# Altium schematic symbol library Frost5000Beta_LIB_Integrados_Sch.SchLib: 15 symbols
Pins are listed as number, name and electrical type; pins without a type are passive.

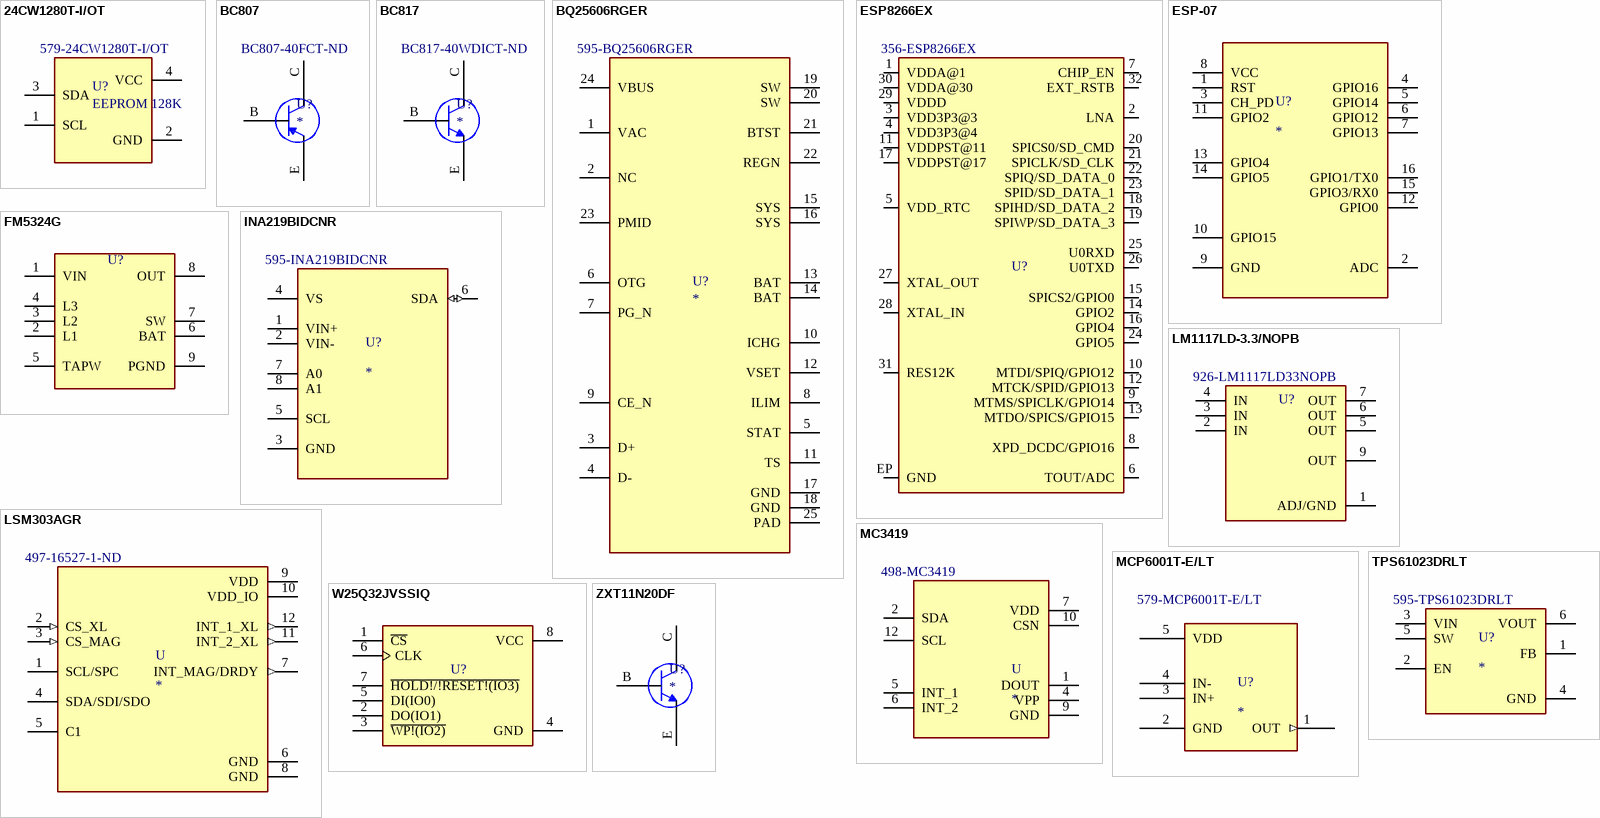
[diagram p0: symbols 24CW1280T-I/OT to ZXT11N20DF]

## 24CW1280T-I/OT
designator U?, comment EEPROM 128K  Supplier Part Number 1: 579-24CW1280T-I/OT
Supplier 1: Mouser
footprint 24CW128 (Footprint EEPROM SOT23)
pins: 1 SCL, 2 GND, 3 SDA, 4 VCC

## BC807
designator U?  Supplier Part Number 1: BC807-40FCT-ND
Transistor PNP; Supplier 1: Digi-Key
footprint Transistor_SOT23-3 (Transistor NPN)
pins: B, C, E

## BC817
designator U?  Supplier Part Number 1: BC817-40WDICT-ND
Transistor NPN; Supplier 1: Digi-Key
footprint Transistor_SOT23-3 (Transistor NPN)
pins: B, C, E

## BQ25606RGER
designator U?  Supplier Part Number 1: 595-BQ25606RGER
Battery Charger 3A - BQ25606; PartNumber: BQ25606RGER; Manufacturer: Texas Instruments; RefDes: RefDes; Type: DEV; Value: Value; Copyright: Copyright (C) 2018 Accelerated Designs. All rights reserved; Supplier 1: Mouser
footprint BQ25606 (Footprint BQ25606 Charger)
pins: 1 VAC, 2 NC, 3 D+, 4 D-, 5 STAT, 6 OTG, 7 PG_N, 8 ILIM, 9 CE_N, 10 ICHG, 11 TS, 12 VSET, 13 BAT, 14 BAT, 15 SYS, 16 SYS, 17 GND, 18 GND, 19 SW, 20 SW, 21 BTST, 22 REGN, 23 PMID, 24 VBUS, 25 PAD

## ESP8266EX
designator U?  Supplier Part Number 1: 356-ESP8266EX  (hidden comment: *)
Microcontrolador ESP8266; MF: Espressif Systems; Availability: Unavailable; SnapEDA_Link: https://www.snapeda.com/parts/ESP8266/Espressif%20Systems/view-part/106411/?ref=snap; Package: VFQFN-32 Espressif Systems; Value: *; MP: ESP8266; Price: None; Supplier 1: Mouser
footprint ESP8266_QFN32-5X5MM (Footprint del ESP8266EX)
pins: 1 VDDA@1, 2 LNA, 3 VDD3P3@3, 4 VDD3P3@4, 5 VDD_RTC, 6 TOUT/ADC, 7 CHIP_EN, 8 XPD_DCDC/GPIO16, 9 MTMS/SPICLK/GPIO14 (io), 10 MTDI/SPIQ/GPIO12, 11 VDDPST@11, 12 MTCK/SPID/GPIO13, 13 MTDO/SPICS/GPIO15, 14 GPIO2, 15 SPICS2/GPIO0, 16 GPIO4, 17 VDDPST@17, 18 SPIHD/SD_DATA_2, 19 SPIWP/SD_DATA_3, 20 SPICS0/SD_CMD, 21 SPICLK/SD_CLK, 22 SPIQ/SD_DATA_0, 23 SPID/SD_DATA_1, 24 GPIO5, 25 U0RXD, 26 U0TXD, 27 XTAL_OUT, 28 XTAL_IN, 29 VDDD, 30 VDDA@30, 31 RES12K, 32 EXT_RSTB, EP GND

## ESP-07
designator U?
ESP07 Module with Antenna Ai-Thinker; MP: AP65111AWU-7; MF: Diodes Inc.; Availability: Unavailable; SnapEDA_Link: https://www.snapeda.com/parts/AP65111AWU-7/Diodes%20Inc./view-part/1631258/?ref=snap; Price: None; Value: *; Package: TSOT-23-6 Diodes Inc.
footprint ESP-07 (ESP8266 Modulo)
pins: 1 RST, 2 ADC, 3 CH_PD, 4 GPIO16, 5 GPIO14, 6 GPIO12, 7 GPIO13, 8 VCC, 9 GND, 10 GPIO15, 11 GPIO2, 12 GPIO0, 13 GPIO4, 14 GPIO5, 15 GPIO3/RX0, 16 GPIO1/TX0

## FM5324G
designator U?  (value not drawn)
Power Battery Management IC; MP: LT1117IST-5#PBF; MF: Analog Devices; Value: *; Availability: Unavailable; Price: None; Package: SOT-223-3 Analog Devices; SnapEDA_Link: https://www.snapeda.com/parts/LT1117IST-5%23PBF/Analog%20Devices/view-part/4348177/?ref=snap
footprint SOP8
pins: 1 VIN, 2 L1, 3 L2, 4 L3, 5 TAPW, 6 BAT, 7 SW, 8 OUT, 9 PGND

## INA219BIDCNR
designator U?  Supplier Part Number 1: 595-INA219BIDCNR
Current Monitor Regulator High-Side 10mA SOT-23-8; MP: INA219BIDCNR; MF: Texas Instruments; SnapEDA_Link: https://www.snapeda.com/parts/INA219BIDCNR/Texas%20Instruments/view-part/870494/?ref=snap; Value: *; Digi-Key_Part_Number: 296-46420-1-ND; Digi-Key_Purchase_URL: https://www.digikey.com.au/product-detail/en/texas-instruments/INA219BIDCNR/296-46420-1-ND/7033594?utm_source=snapeda&utm_medium=aggregator&utm_campaign=symbol; Package: SOT-23 Texas Instruments; Supplier 1: Mouser
footprint INA219B SOT23 (Current Monitor)
pins: 1 VIN+, 2 VIN-, 3 GND, 4 VS (power), 5 SCL, 6 SDA (io), 7 A0, 8 A1

## LM1117LD-3.3/NOPB
designator U?  Supplier Part Number 1: 926-LM1117LD33NOPB  (hidden comment: *)
LDO Regulator Pos 3.3V 0.8A Texas; MP: LT1117IST-5#PBF; MF: Analog Devices; Value: *; Availability: Unavailable; Price: None; Package: SOT-223-3 Analog Devices; SnapEDA_Link: https://www.snapeda.com/parts/LT1117IST-5%23PBF/Analog%20Devices/view-part/4348177/?ref=snap; Supplier 1: Mouser
footprint LM1117-3.3-WSON-8 (Footprint del LDO de Texas)
pins: 1 ADJ/GND, 2 IN, 3 IN, 4 IN, 5 OUT, 6 OUT, 7 OUT, 9 OUT

## LSM303AGR
designator U  Supplier Part Number 1: 497-16527-1-ND
Accelerometer, Magnetometer; MP: LSM303AGR; MF: STMicroelectronics; Availability: Unavailable; Price: None; Value: *; SnapEDA_Link: https://www.snapeda.com/parts/LSM303AGR/STMicroelectronics/view-part/3601838/?ref=snap; Package: VFLGA-12 STMicroelectronics; Supplier 1: Digi-Key
footprint LSM303AGR-LGA12 (Footprint LSM303AGR)
pins: 1 SCL/SPC, 2 CS_XL (in), 3 CS_MAG (in), 4 SDA/SDI/SDO, 5 C1, 6 GND (power), 7 INT_MAG/DRDY (out), 8 GND (power), 9 VDD (power), 10 VDD_IO (power), 11 INT_2_XL (out), 12 INT_1_XL (out)

## MC3419
designator U  Supplier Part Number 1: 498-MC3419
Accelerometer; MP: LSM303AGR; MF: STMicroelectronics; Availability: Unavailable; Price: None; Value: *; SnapEDA_Link: https://www.snapeda.com/parts/LSM303AGR/STMicroelectronics/view-part/3601838/?ref=snap; Package: VFLGA-12 STMicroelectronics; Supplier 1: Mouser
footprint MC3419 (Footprint LSM303AGR)
pins: 1 DOUT, 2 SDA, 4 VPP, 5 INT_1, 6 INT_2, 7 VDD, 9 GND, 10 CSN, 12 SCL

## MCP6001T-E/LT
designator U?  Supplier Part Number 1: 579-MCP6001T-E/LT
OP AMP - 1.8V 1MHz  Single Supply; Supplier 1: Mouser
footprint MCP6001-SC70-5 (Footprint OPAMP)
pins: 1 OUT (out), 2 GND, 3 IN+, 4 IN-, 5 VDD (power)

## TPS61023DRLT
designator U?  Supplier Part Number 1: 595-TPS61023DRLT
Boost Switching Regulator IC Positive Adjustable 2.2V 1 Output 3A SOT-563, SOT-666; MF: Texas Instruments; MP: TPS61023DRLT; SnapEDA_Link: https://www.snapeda.com/parts/TPS61023DRLT/Texas%20Instruments/view-part/4477974/?ref=snap; Availability: Unavailable; Value: *; Price: None; Package: SOT-563 Texas Instruments; Supplier 1: Mouser
footprint TPS61023-SOT563 (Footprint Boost)
pins: 1 FB, 2 EN, 3 VIN, 4 GND, 5 SW, 6 VOUT

## W25Q32JVSSIQ
designator U?  (value not drawn)
FLASH - NOR Memory IC 32Mb _4M x 8_ SPI - Quad I/O 133MHz 8-SOIC; MF: Winbond; MP: W25Q32JVSSIQ; Package: SOIC-8 Winbond; Price: None; SnapEDA_Link: https://www.snapeda.com/parts/W25Q32JVSSIQ/Winbond%20Electronics/view-part/596953/?ref=snap; Availability: Unavailable; Value: *
footprint W25Q32JVSSIQ_SOIC127P790X216-8N (Memoria Flash SOIC8 SS)
pins: 1 ~{CS}, 2 DO(IO1), 3 ~{WP!(IO2)}, 4 GND, 5 DI(IO0), 6 CLK, 7 ~{HOLD!/!RESET!(IO3)}, 8 VCC (power)

## ZXT11N20DF
designator U?
Transistor NPN Low Saturation Vce; Supplier 1: Mouser; Supplier Part Number 1: 522-ZXT11N20DFTA
footprint Transistor_SOT23-3 (Transistor NPN)
pins: B, C, E